# EAGLE library part MOLEX_SL_20 (library molex-sl-connectors_jw)
Molex SL-Series PCB Header, 20-Pos, 0.1" (2.54mm) Centers
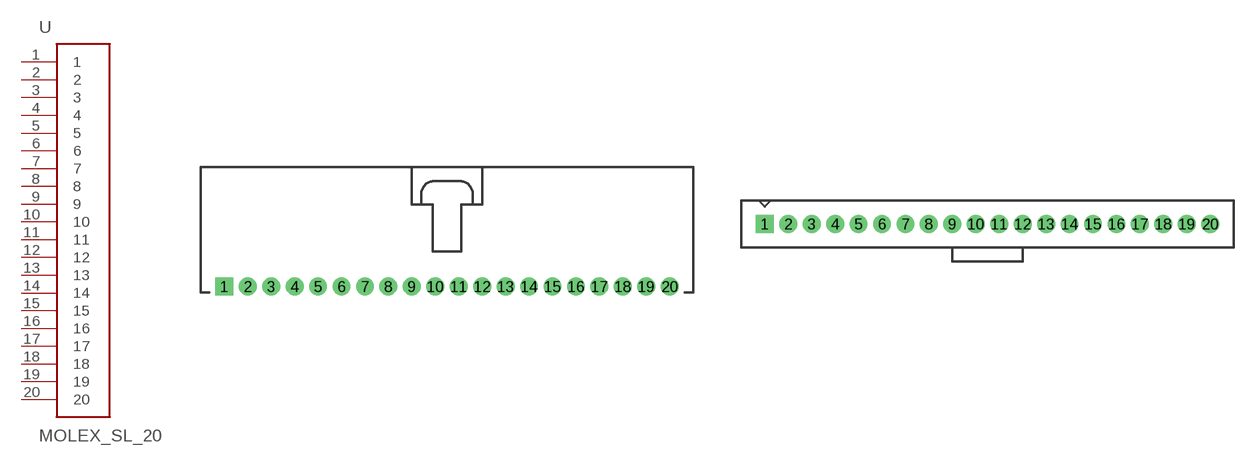
[diagram p14: symbol with the pads of SL_70553_20; footprints SL_70553_20, SL_70543_20]

Designator prefix -

## MOLEX_SL_20-70553  [SL_70553_20]
1  1
2  2
3  3
4  4
5  5
6  6
7  7
8  8
9  9
10  10
11  11
12  12
13  13
14  14
15  15
16  16
17  17
18  18
19  19
20  20

## MOLEX_SL_20-70543-74095  [SL_70543_20]
Pads as for SL_70553_20

## MOLEX_SL_20-70541-70545  [SL_70541_20]
Pads as for SL_70553_20

## MOLEX_SL_20-70551  [SL_70551_20]
Pads as for SL_70553_20

## MOLEX_SL_20-70555  [SL_70555_20]
Pads as for SL_70553_20

## MOLEX_SL_20-70634  [SL_70634_20]
Pads as for SL_70553_20

## MOLEX_SL_20-87898  [SL_87898_20]
Pads as for SL_70553_20

## Footprint SL_70553_20 (pad centres in mm)
Right-Angle Header w/ Latch (no pegs) 70553-0019 70553-0054 70553-0124 70553-0159
drill 1.1 pad 1.93 square: 1 -24.13,-5.08
drill 1.1 pad 1.93: 2 -21.59,-5.08; 3 -19.05,-5.08; 4 -16.51,-5.08; 5 -13.97,-5.08; 6 -11.43,-5.08; 7 -8.89,-5.08; 8 -6.35,-5.08; 9 -3.81,-5.08; 10 -1.27,-5.08; 11 1.27,-5.08; 12 3.81,-5.08; 13 6.35,-5.08; 14 8.89,-5.08; 15 11.43,-5.08; 16 13.97,-5.08; 17 16.51,-5.08; 18 19.05,-5.08; 19 21.59,-5.08; 20 24.13,-5.08

## Footprint SL_70543_20 (pad centres in mm)
Vertical Header w/ Latch & Optional Compliant Pins (no pegs) Normal Pins: 70543-0019 70543-0054 70543-0089 70543-0124 70543-0159 70543-0183 70543-0218 70543-0266 70543-0290 70543-0314 Compliant Pins 74095-0020 74095-0050 74095-0080 74095-1050 74095-1080
drill 1.1 pad 1.93 square: 1 -24.13,1.27
drill 1.1 pad 1.93: 2 -21.59,1.27; 3 -19.05,1.27; 4 -16.51,1.27; 5 -13.97,1.27; 6 -11.43,1.27; 7 -8.89,1.27; 8 -6.35,1.27; 9 -3.81,1.27; 10 -1.27,1.27; 11 1.27,1.27; 12 3.81,1.27; 13 6.35,1.27; 14 8.89,1.27; 15 11.43,1.27; 16 13.97,1.27; 17 16.51,1.27; 18 19.05,1.27; 19 21.59,1.27; 20 24.13,1.27

## Footprint SL_70541_20 (pad centres in mm)
Vertical Header w/ Latch & Pegs With Split Pegs: 70541-0019 70541-0054 70541-0089 With Tri-Pegs: 70545-0019 70545-0054 70545-0089 70545-3019 70545-3069 70545-3119
drill 1.1 pad 1.93 square: 1 -24.13,1.27
drill 1.1 pad 1.93: 2 -21.59,1.27; 3 -19.05,1.27; 4 -16.51,1.27; 5 -13.97,1.27; 6 -11.43,1.27; 7 -8.89,1.27; 8 -6.35,1.27; 9 -3.81,1.27; 10 -1.27,1.27; 11 1.27,1.27; 12 3.81,1.27; 13 6.35,1.27; 14 8.89,1.27; 15 11.43,1.27; 16 13.97,1.27; 17 16.51,1.27; 18 19.05,1.27; 19 21.59,1.27; 20 24.13,1.27
hole 3.404 at -28.194,0.508
hole 3.404 at 28.194,0.508

## Footprint SL_70551_20 (pad centres in mm)
Right-Angle Header w/ Latch & Split Pegs 70551-0019 70551-0054 70551-0089
drill 1.1 pad 1.93 square: 1 -24.13,-5.08
drill 1.1 pad 1.93: 2 -21.59,-5.08; 3 -19.05,-5.08; 4 -16.51,-5.08; 5 -13.97,-5.08; 6 -11.43,-5.08; 7 -8.89,-5.08; 8 -6.35,-5.08; 9 -3.81,-5.08; 10 -1.27,-5.08; 11 1.27,-5.08; 12 3.81,-5.08; 13 6.35,-5.08; 14 8.89,-5.08; 15 11.43,-5.08; 16 13.97,-5.08; 17 16.51,-5.08; 18 19.05,-5.08; 19 21.59,-5.08; 20 24.13,-5.08
hole 3.404 at -25.4,3.556
hole 3.404 at 25.4,3.556

## Footprint SL_70555_20 (pad centres in mm)
Right-Angle Header w/ Latch & Tri-Pegs 70555-0019 70555-0054 70555-0089 70555-5019
drill 1.1 pad 1.93 square: 1 -24.13,-5.08
drill 1.1 pad 1.93: 2 -21.59,-5.08; 3 -19.05,-5.08; 4 -16.51,-5.08; 5 -13.97,-5.08; 6 -11.43,-5.08; 7 -8.89,-5.08; 8 -6.35,-5.08; 9 -3.81,-5.08; 10 -1.27,-5.08; 11 1.27,-5.08; 12 3.81,-5.08; 13 6.35,-5.08; 14 8.89,-5.08; 15 11.43,-5.08; 16 13.97,-5.08; 17 16.51,-5.08; 18 19.05,-5.08; 19 21.59,-5.08; 20 24.13,-5.08
hole 3.404 at -25.527,3.556
hole 3.404 at 25.527,3.556

## Footprint SL_70634_20 (pad centres in mm)
SMD Right-Angle Header w/ Latch & PCB Pegs 70634-0019 70634-0054 70634-0089 70634-0124 70634-0159 70634-0194 70634-0220
smd 1.651 x 5.334: 1 -24.13,-7.62; 2 -21.59,-7.62; 3 -19.05,-7.62; 4 -16.51,-7.62; 5 -13.97,-7.62; 6 -11.43,-7.62; 7 -8.89,-7.62; 8 -6.35,-7.62; 9 -3.81,-7.62; 10 -1.27,-7.62; 11 1.27,-7.62; 12 3.81,-7.62; 13 6.35,-7.62; 14 8.89,-7.62; 15 11.43,-7.62; 16 13.97,-7.62; 17 16.51,-7.62; 18 19.05,-7.62; 19 21.59,-7.62; 20 24.13,-7.62
hole 3.404 at -25.552,3.048
hole 3.404 at 25.527,3.099

## Footprint SL_87898_20 (pad centres in mm)
SMD Vertical Header (no latch or pegs) Package also includes Pick-N-Place Cap Tube packaging w/o Pick-N-Place Cap: 87898-2021 87898-2022 87898-2024 87898-2025 87898-2026 Tube packaging w/ Pick-N-Place Cap: 87898-2031 87898-2032 87898-2034 87898-2035 87898-2036 Tape & Reel packaging w/ Pick-N-Place Cap: 87898-2051 87898-2052 87898-2054 87898-2055 87898-2056
smd 1.27 x 2.946: 1 -24.13,1.803; 2 -21.59,-1.803; 3 -19.05,1.803; 4 -16.51,-1.803; 5 -13.97,1.803; 6 -11.43,-1.803; 7 -8.89,1.803; 8 -6.35,-1.803; 9 -3.81,1.803; 10 -1.27,-1.803; 11 1.27,1.803; 12 3.81,-1.803; 13 6.35,1.803; 14 8.89,-1.803; 15 11.43,1.803; 16 13.97,-1.803; 17 16.51,1.803; 18 19.05,-1.803; 19 21.59,1.803; 20 24.13,-1.803